# Altium schematic symbol library Devices.SchLib: 23 symbols
Pins are listed as number, name and electrical type; pins without a type are passive.

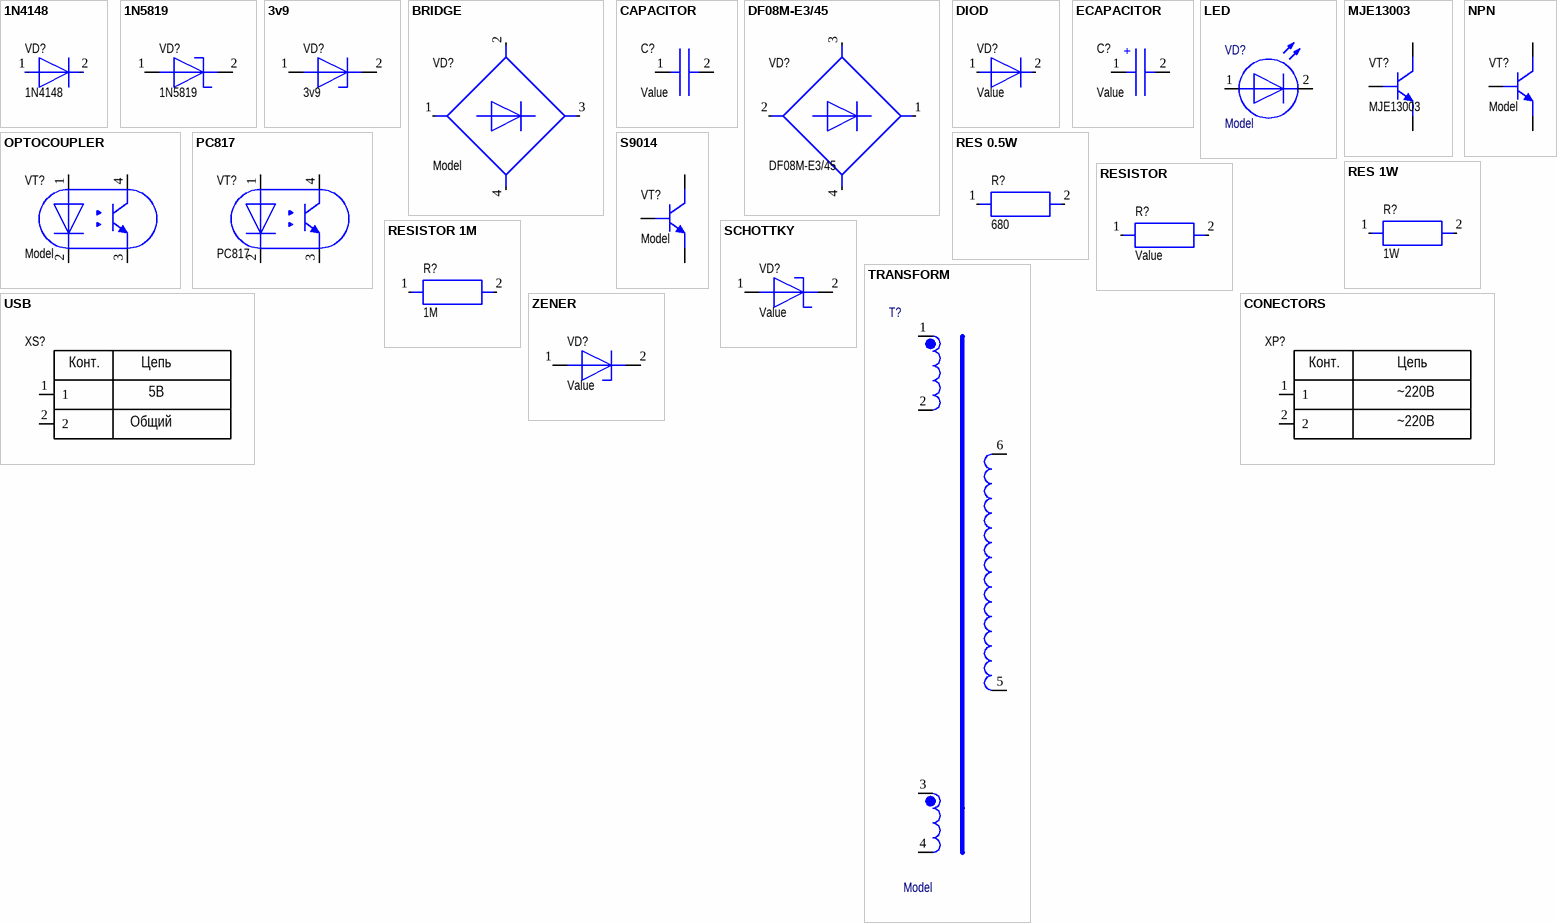
[diagram p0: symbols 1N4148 to СONECTORS]

## 1N4148
designator VD?
footprint DO-35
pins: 1 3, 2

## 1N5819
designator VD?
footprint DO-41
pins: 1 3, 2

## 3v9
designator VD?
footprint DO-35
pins: 1 3, 2

## BRIDGE
designator VD?, comment Model
pins: 1, 2, 3, 4

## CAPAСITOR
designator C?, comment Value
pins: 1, 2

## DF08M-E3/45
designator VD?
ComponentLink1Description: datasheet; ComponentLink1URL: https://www.chipdip.ru/product/df08m; ComponentLink2Description: doc; ComponentLink2URL: https://static.chipdip.ru/lib/151/DOC000151037.pdf
footprint DFM
pins: 1, 2, 3 2, 4

## DIOD
designator VD?, comment Value
pins: 1 3, 2

## ECAPAСITOR
designator C?, comment Value
pins: 1, 2
text: +

## LED
designator VD?, comment Model
pins: 1, 2

## MJE13003
designator VT?
footprint TO-126 / SOT-32
pins: 1 C, 2 E, 3 B

## NPN
designator VT?, comment Model
footprint TO-126 / SOT-32
pins: 1 E, 2 B, 3 C

## OPTOCOUPLER
designator VT?, comment Model
footprint DIP-4
pins: 1 Anode, 2 Cathode, 3, 4

## PC817
designator VT?
footprint DIP-4
footprint DIP-4
pins: 1 Anode, 2 Cathode, 3, 4

## RES 0.5W
designator R?, comment 680
footprint 0.5W
pins: 1, 2 8

## RES 1W
designator R?, comment 1W
footprint RES:1W
pins: 1, 2 8

## RESISTOR
designator R?, comment Value
footprint RES: 0.25W
footprint RES:1W
pins: 1, 2 8

## RESISTOR 1M
designator R?, comment 1M
footprint 0.25W
pins: 1, 2 8

## S9014
designator VT?, comment Model
footprint TO-92
pins: 1 B, 2 C, 3 E

## SCHOTTKY
designator VD?, comment Value
pins: 1 3, 2

## TRANSFORM
designator T?, comment Model
pins: 1, 2, 3, 4, 5, 6

## USB
designator XS?  (value not drawn)
pins: 1, 2
text: Конт.; Цепь; 5B; Общий

## ZENER
designator VD?, comment Value
pins: 1 3, 2

## СONECTORS
designator XP?  (value not drawn)
pins: 1, 2
text: Конт.; Цепь; ~220В